# EAGLE library part CON-USB-F-2PB (library dp_devices)
USB Female connector with 2 body pins
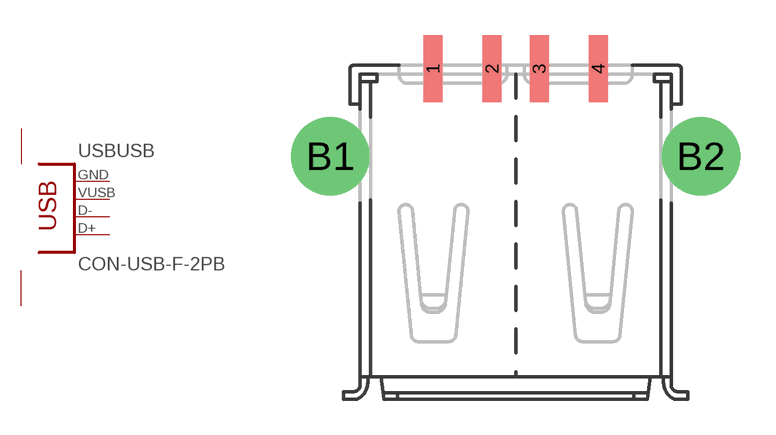
[diagram p108: symbol with the pads of CONN_USB_A_F; footprint CONN_USB_A_F]

Designator prefix USB; gates USB=CONN_USB_4P B=USB_BODY_PINS_2P

## CON-USB-F-2PB  [CONN_USB_A_F]
1  USB:VUSB
2  USB:D-
3  USB:D+
4  USB:GND
B1  B:BODY  hiz
B2  B:BODY  hiz

## Footprint CONN_USB_A_F (pad centres in mm)
USB AF SMD Mfr no. AU-Y1006-2-R Digikey <http://www.digikey.com/product-detail/en/AU-Y1006-2-R/AE10332-ND/2077795>
smd 0.8 x 2.82: 1 -3.5,6.46; 2 -1,6.46; 3 1,6.46; 4 3.5,6.46
drill 2.3: B1 -7.85,2.75; B2 7.85,2.75